# Altium integrated library resistor-ruf.IntLib: 3 symbols
Pins are listed as number, name and electrical type; pins without a type are passive.

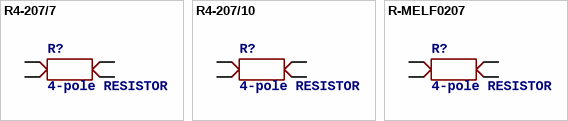
[diagram p0: symbols R4-207/7 to R-MELF0207]

## R4-207/7
designator R?, comment 4-pole RESISTOR
OC_FARNELL: unknown; OC_NEWARK: unknown
footprint R4-207/7
pins: A1 PT100-A1, A2 PT100-A2, B1 PT100-B1, B2 PT100-B2

## R4-207/10
designator R?, comment 4-pole RESISTOR
OC_FARNELL: unknown; OC_NEWARK: unknown
footprint R4207/10
pins: A1 PT100-A1, A2 PT100-A2, B1 PT100-B1, B2 PT100-B2

## R-MELF0207
designator R?, comment 4-pole RESISTOR
MPN: CMB 0207 2% B2 470K; OC_FARNELL: 1505905; OC_NEWARK: 15R0802
footprint MELF0207
pins: 1A PT100-A1, 1B PT100-B1, 2A PT100-A2, 2B PT100-B2